# Altium schematic symbol library CM-1153PC Schematic.SchLib: 1 symbol
Pins are listed as number, name and electrical type; pins without a type are passive.

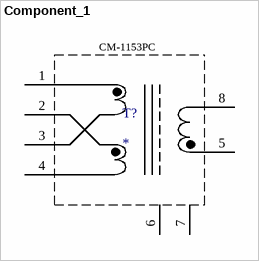
[diagram p0: symbol Component_1]

## Component_1
designator T?
Cinemag CM-1153PC Transformer
footprint CM-1153PC (Cinemag CM-1153PC Transformer)
pins: 1, 2, 3, 4, 5, 6, 7, 8
text: CM-1153PC